# Altium footprint library ESP32.PcbLib: 2 footprints
Each footprint in its own frame and in the unit in brackets; x right, y up, seen from the top. Pads: shape width x height; smd on the part's side, far side on the other; paste and mask are expansions set on the pad; w line width, h text height; cw(c..) or ccw(c..) is an arc to the next point about the centre after c.
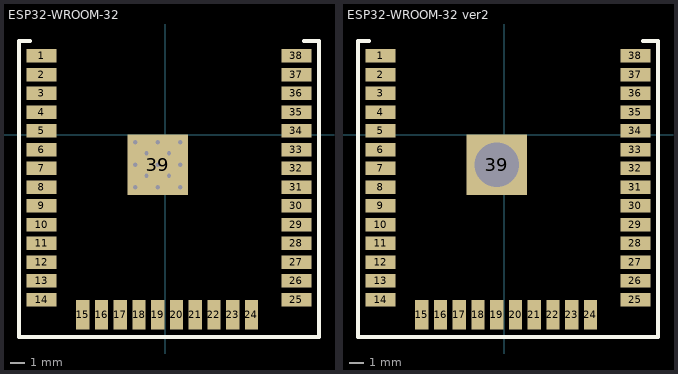
[diagram p0: the footprints below, top view; thin cyan lines are the x and y axes]

## ESP32-WROOM­32 [mm]
pads (39):
  rect 2x0.9 smd: 1(-8.382,5.334) 2(-8.382,4.064) 3(-8.382,2.794) 4(-8.382,1.524) 5(-8.382,0.254) 6(-8.382,-1.016) 7(-8.382,-2.286) 8(-8.382,-3.556) 9(-8.382,-4.826) 10(-8.382,-6.096) 11(-8.382,-7.366) 12(-8.382,-8.636) 13(-8.382,-9.906) 14(-8.382,-11.176) 25(8.89,-11.176) 26(8.89,-9.906) 27(8.89,-8.636) 28(8.89,-7.366) 29(8.89,-6.096) 30(8.89,-4.826) 31(8.89,-3.556) 32(8.89,-2.286) 33(8.89,-1.016) 34(8.89,0.254) 35(8.89,1.524) 36(8.89,2.794) 37(8.89,4.064) 38(8.89,5.334)
  rect 0.9x2 smd: 15(-5.588,-12.192) 16(-4.318,-12.192) 17(-3.048,-12.192) 18(-1.778,-12.192) 19(-0.508,-12.192) 20(0.762,-12.192) 21(2.032,-12.192) 22(3.302,-12.192) 23(4.572,-12.192) 24(5.842,-12.192)
  rect 4.1x4.1 all layers, no hole: 39(-0.508,-2.032)
via -0.508,-3.556 diameter 0.5 hole 0.3
via -0.508,-0.508 diameter 0.5 hole 0.3
via 1.016,-2.032 diameter 0.5 hole 0.3
via -2.032,-2.032 diameter 0.5 hole 0.3
via -1.27,-2.794 diameter 0.5 hole 0.3
via 0.254,-2.794 diameter 0.5 hole 0.3
via 0.254,-1.27 diameter 0.5 hole 0.3
via -1.27,-1.27 diameter 0.5 hole 0.3
via -2.032,-3.556 diameter 0.5 hole 0.3
via 1.016,-3.556 diameter 0.5 hole 0.3
via 1.016,-0.508 diameter 0.5 hole 0.3
via -2.032,-0.508 diameter 0.5 hole 0.3
via -0.508,-2.032 diameter 0.5 hole 0.3
Top Overlay:
  lines w0.254: -9.144,6.35 -9.906,6.35 -9.906,-13.716 10.414,-13.716 10.414,6.35 9.398,6.35
3D body "ESP32.step": height 3, standoff -0.04, extent -8.925,-12.74 9.145,12.8

## ESP32-WROOM­32 ver2 [mm]
pads (39):
  rect 2x0.9 smd: 1(-8.382,5.334) 2(-8.382,4.064) 3(-8.382,2.794) 4(-8.382,1.524) 5(-8.382,0.254) 6(-8.382,-1.016) 7(-8.382,-2.286) 8(-8.382,-3.556) 9(-8.382,-4.826) 10(-8.382,-6.096) 11(-8.382,-7.366) 12(-8.382,-8.636) 13(-8.382,-9.906) 14(-8.382,-11.176) 25(8.89,-11.176) 26(8.89,-9.906) 27(8.89,-8.636) 28(8.89,-7.366) 29(8.89,-6.096) 30(8.89,-4.826) 31(8.89,-3.556) 32(8.89,-2.286) 33(8.89,-1.016) 34(8.89,0.254) 35(8.89,1.524) 36(8.89,2.794) 37(8.89,4.064) 38(8.89,5.334)
  rect 0.9x2 smd: 15(-5.588,-12.192) 16(-4.318,-12.192) 17(-3.048,-12.192) 18(-1.778,-12.192) 19(-0.508,-12.192) 20(0.762,-12.192) 21(2.032,-12.192) 22(3.302,-12.192) 23(4.572,-12.192) 24(5.842,-12.192)
  rect 4.1x4.1 hole 3: 39(-0.508,-2.032)
Top Overlay:
  lines w0.254: -9.144,6.35 -9.906,6.35 -9.906,-13.716 10.414,-13.716 10.414,6.35 9.398,6.35
3D body "ESP32.step": height 3, standoff -0.04, extent -8.925,-12.74 9.145,12.8